# Altium integrated library Vector Library.IntLib: 12 symbols
Pins are listed as number, name and electrical type; pins without a type are passive.

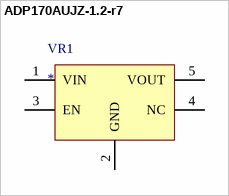
[diagram p0: symbol ADP170AUJZ-1.2-r7]

## ADP170AUJZ-1.2-r7
designator VR1
footprint VREG-1.2 (SOT23, 5-Leads, Body 2.90x2.80mm, Pitch 0.95mm, IPC Medium Density)
pins: 1 VIN, 2 GND, 3 EN, 4 NC, 5 VOUT


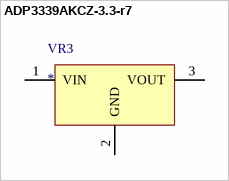
[diagram p1: symbol ADP3339AKCZ-3.3-r7]

## ADP3339AKCZ-3.3-r7
designator VR3
footprint VREG-3.3 (SOT223, 4-Leads, Body 6.50x7.00mm (avg), Pitch 2.30mm, IPC Medium Density); pin to pad 1>3 2>1 3>2
pins: 1 VIN, 2 GND, 3 VOUT


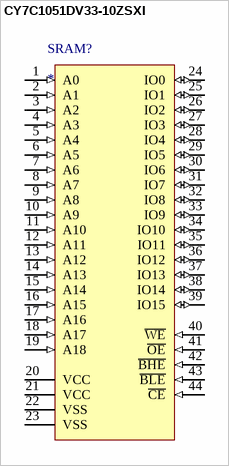
[diagram p2: symbol CY7C1051DV33-10ZSXI]

## CY7C1051DV33-10ZSXI
designator SRAM?
footprint TSOP-44-SRAM (TSOP, 44-Leads, Body 18.41x10.16mm, Pitch 0.80mm, IPC Medium Density); pin to pad 6>18 7>19 8>20 9>21 10>22 11>23 12>24 13>25 14>26 15>27 16>42 17>43 18>44 19>28 20>11 21>33 22>12 23>34 24>7 25>8 26>9 27>10 28>13 29>14 30>15 31>16 32>29 33>30 34>31 35>32 36>35 37>36 38>37 39>38 40>17 42>40 43>39 44>6
pins: 1 A0 (in), 2 A1 (in), 3 A2 (in), 4 A3 (in), 5 A4 (in), 6 A5 (in), 7 A6 (in), 8 A7 (in), 9 A8 (in), 10 A9 (in), 11 A10 (in), 12 A11 (in), 13 A12 (in), 14 A13 (in), 15 A14 (in), 16 A15 (in), 17 A16 (in), 18 A17 (in), 19 A18 (in), 20 VCC (power), 21 VCC (power), 22 VSS, 23 VSS, 24 IO0 (io), 25 IO1 (io), 26 IO2 (io), 27 IO3 (io), 28 IO4 (io), 29 IO5 (io), 30 IO6 (io), 31 IO7 (io), 32 IO8 (io), 33 IO9 (io), 34 IO10 (io), 35 IO11 (io), 36 IO12 (io), 37 IO13 (io), 38 IO14 (io), 39 IO15 (io), 40 ~{WE} (in), 41 ~{OE} (in), 42 ~{BHE} (in), 43 ~{BLE} (in), 44 ~{CE} (in)


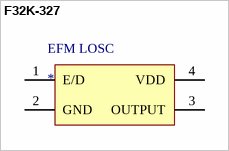
[diagram p3: symbol F32K-327]

## F32K-327
designator EFM LOSC
footprint LFOSC-32
pins: 1 E/D, 2 GND, 3 OUTPUT, 4 VDD


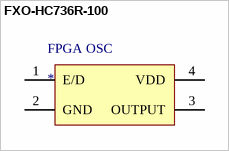
[diagram p4: symbol FXO-HC736R-100]

## FXO-HC736R-100
designator FPGA OSC
footprint FPGA-OSC
pins: 1 E/D, 2 GND, 3 OUTPUT, 4 VDD


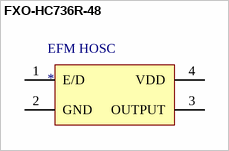
[diagram p5: symbol FXO-HC736R-48]

## FXO-HC736R-48
designator EFM HOSC
footprint Model Name (Footprint not found)
footprint FPGA-OSC
pins: 1 E/D, 2 GND, 3 OUTPUT, 4 VDD


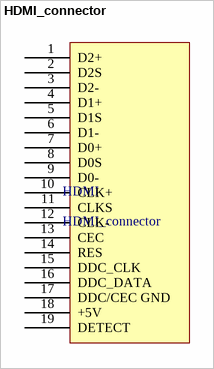
[diagram p6: symbol HDMI_connector]

## HDMI_connector
designator HDMI
footprint HDMI-type-A
pins: 1 D2+, 2 D2S, 3 D2-, 4 D1+, 5 D1S, 6 D1-, 7 D0+, 8 D0S, 9 D0-, 10 CLK+, 11 CLKS, 12 CLK-, 13 CEC, 14 RES, 15 DDC_CLK, 16 DDC_DATA, 17 DDC/CEC GND, 18 +5V, 19 DETECT


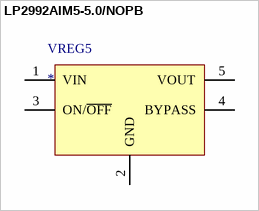
[diagram p7: symbol LP2992AIM5-5.0/NOPB]

## LP2992AIM5-5.0/NOPB
designator VREG5
footprint VREG-5 (SOT23, 5-Leads, Body 2.90x2.80mm, Pitch 0.95mm, IPC Medium Density)
pins: 1 VIN, 2 GND, 3 ON/~{OFF}, 4 BYPASS, 5 VOUT


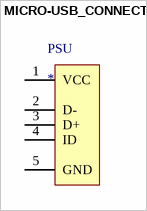
[diagram p8: symbol MICRO-USB_CONNECTOR]

## MICRO-USB_CONNECTOR
designator PSU
footprint MICRO-USB
pins: 1 VCC, 2 D-, 3 D+, 4 ID, 5 GND


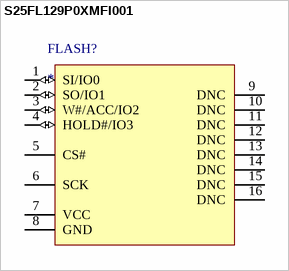
[diagram p9: symbol S25FL129P0XMFI001]

## S25FL129P0XMFI001
designator FLASH?
footprint SOIC-16-FLASH (SOIC, 16-Leads, Body 10.30x7.50mm, Pitch 1.27mm, IPC Medium Density); pin to pad 1>15 2>8 3>9 4>1 5>7 6>16 7>2 8>10 9>3 10>4 11>5 12>6 13>11 14>12 15>13 16>14
pins: 1 SI/IO0 (io), 2 SO/IO1 (io), 3 W#/ACC/IO2 (io), 4 HOLD#/IO3 (io), 5 CS#, 6 SCK, 7 VCC, 8 GND, 9 DNC, 10 DNC, 11 DNC, 12 DNC, 13 DNC, 14 DNC, 15 DNC, 16 DNC


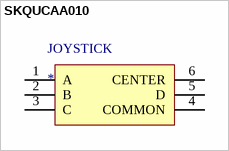
[diagram p10: symbol SKQUCAA010]

## SKQUCAA010
designator JOYSTICK
footprint 5-WAY-JOYSTICK
pins: 1 A, 2 B, 3 C, 4 COMMON, 5 D, 6 CENTER


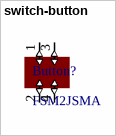
[diagram p11: symbol switch-button]

## switch-button
designator Button?, comment FSM2JSMA
footprint Button (copied from 256 SoG)
pins: 1 (io), 2 (io), 3 (io), 4 (io)